# Altium footprint library Abracon_Inductors.PcbLib: 1 footprints
Each footprint in its own frame and in the unit in brackets; x right, y up, seen from the top. Pads: shape width x height; smd on the part's side, far side on the other; paste and mask are expansions set on the pad; w line width, h text height; cw(c..) or ccw(c..) is an arc to the next point about the centre after c.
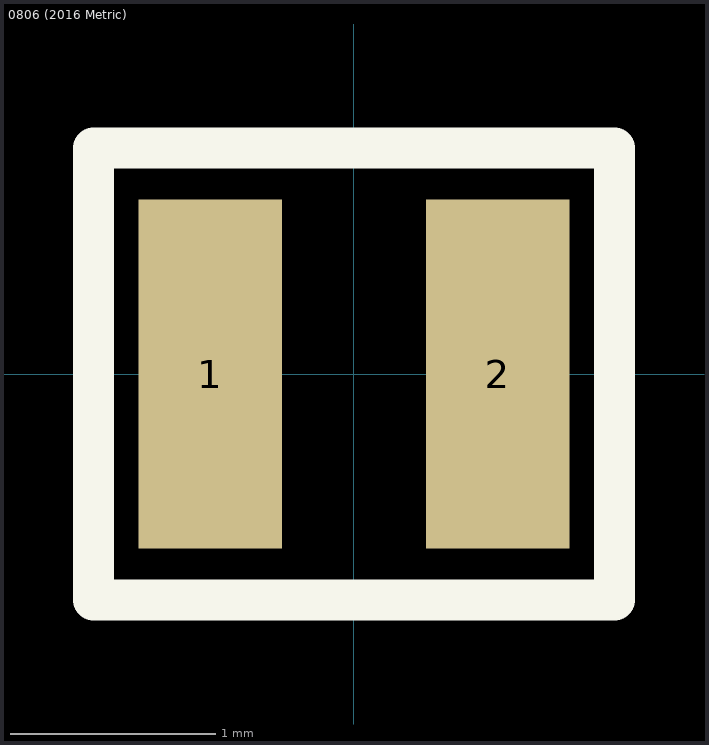
[diagram p0: the footprint, top view; thin cyan lines are the x and y axes]

## 0806 (2016 Metric) [mm]
pads (2):
  rect 0.7x1.7 smd: 1(-0.7,0) 2(0.7,0)
Top Overlay:
  lines w0.2: -1.27,-1.1 1.27,-1.1 1.27,1.1 -1.27,1.1 -1.27,-1.1
3D body "ASPI-2010HC.STEP": height 1, standoff 0, extent -1,-0.79 1,0.81